# EAGLE library part ARDUINONANO (library arduinonano)
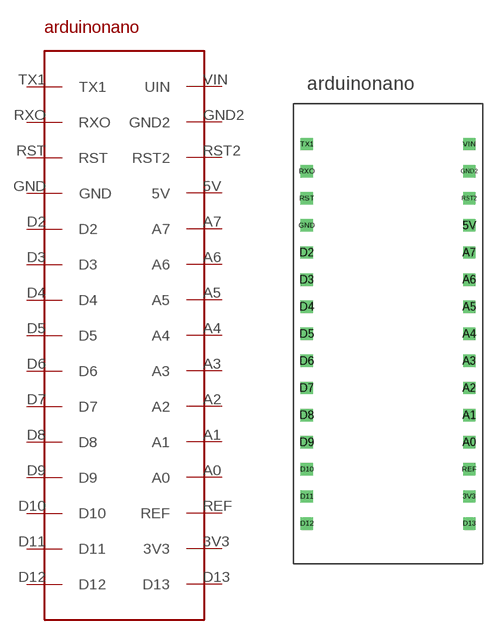
[diagram p0: symbol with the pads of ARDUINONANO; footprint ARDUINONANO]

Designator prefix -

## ARDUINONANO  [ARDUINONANO]
3V3  3V3
5V  5V
A0  A0
A1  A1
A2  A2
A3  A3
A4  A4
A5  A5
A6  A6
A7  A7
D2  D2
D3  D3
D4  D4
D5  D5
D6  D6
D7  D7
D8  D8
D9  D9
D10  D10
D11  D11
D12  D12
D13  D13
GND  GND
GND2  GND2
REF  REF
RST  RST
RST2  RST2
RXO  RXO
TX1  TX1
VIN  UIN

## Footprint ARDUINONANO (pad centres in mm)
drill 0.65 square: 3V3 5.08,-24.13; 5V 5.08,1.27; A0 5.08,-19.05; A1 5.08,-16.51; A2 5.08,-13.97; A3 5.08,-11.43; A4 5.08,-8.89; A5 5.08,-6.35; A6 5.08,-3.81; A7 5.08,-1.27; D2 -10.16,-1.27; D3 -10.16,-3.81; D4 -10.16,-6.35; D5 -10.16,-8.89; D6 -10.16,-11.43; D7 -10.16,-13.97; D8 -10.16,-16.51; D9 -10.16,-19.05; D10 -10.16,-21.59; D11 -10.16,-24.13; D12 -10.16,-26.67; D13 5.08,-26.67; GND -10.16,1.27; GND2 5.08,6.35; REF 5.08,-21.59; RST -10.16,3.81; RST2 5.08,3.81; RXO -10.16,6.35; TX1 -10.16,8.89; VIN 5.08,8.89